# Altium schematic symbol library Crystal_16Mhz.SchLib: 1 symbol
Pins are listed as number, name and electrical type; pins without a type are passive.

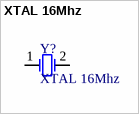
[diagram p0: symbol XTAL 16Mhz]

## XTAL 16Mhz
designator Y?
footprint HC49
footprint HC-49_SMD
footprint HC-49_THD
pins: 1, 2